# Altium schematic symbol library TPS7A4901.Schlib: 1 symbol
Pins are listed as number, name and electrical type; pins without a type are passive.

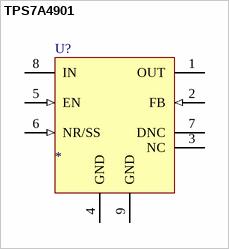
[diagram p0: symbol TPS7A4901]

## TPS7A4901
designator U?
pins: 1 OUT (power), 2 FB (in), 3 NC, 4 GND (power), 5 EN (in), 6 NR/SS (in), 7 DNC, 8 IN (power), 9 GND (power)